# Altium schematic symbol library MX25L12835F.SchLib: 1 symbol
Pins are listed as number, name and electrical type; pins without a type are passive.

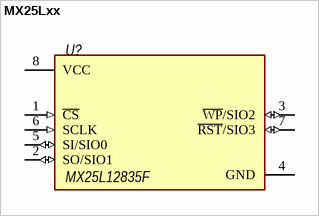
[diagram p0: symbol MX25Lxx]

## MX25Lxx
designator U?, comment MX25L12835F
3V, 128M-BIT [x 1/x 2/x 4] CMOS MXSMIO® (SERIAL MULTI I/O) FLASH MEMORY
footprint WSON-8_6x8 (SON, 8-Leads, Body 6,00x8,00mm, Pitch 1,27mm, Thermal Pad 4,80x4,65mm, IPC Medium Density)
footprint WSON-8_6x8_NoTH (SON, 8-Leads, Body 6,00x8,00mm, Pitch 1,27mm, Thermal Pad 4,80x4,65mm, IPC Medium Density)
pins: 1 ~{CS} (in), 2 SO/SIO1 (io), 3 ~{WP}/SIO2 (io), 4 GND (power), 5 SI/SIO0 (io), 6 SCLK (in), 7 ~{RST}/SIO3 (io), 8 VCC (power)